# Altium schematic symbol library XATL-4P.Schlib: 1 symbol
Pins are listed as number, name and electrical type; pins without a type are passive.

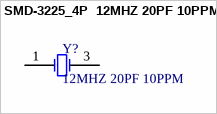
[diagram p0: symbol SMD-3225_4P  12MHZ 20PF 10PPM]

## SMD-3225_4P  12MHZ 20PF 10PPM
designator Y?, comment 12MHZ 20PF 10PPM
贴片晶振
footprint SMD-3225_4P
pins: 1 OSC1, 3 OSC2